# Altium footprint library ICs.PcbLib: 21 footprints (part 2 of 2)
Each footprint in its own frame and in the unit in brackets; x right, y up, seen from the top. Pads: shape width x height; smd on the part's side, far side on the other; paste and mask are expansions set on the pad; w line width, h text height; cw(c..) or ccw(c..) is an arc to the next point about the centre after c.
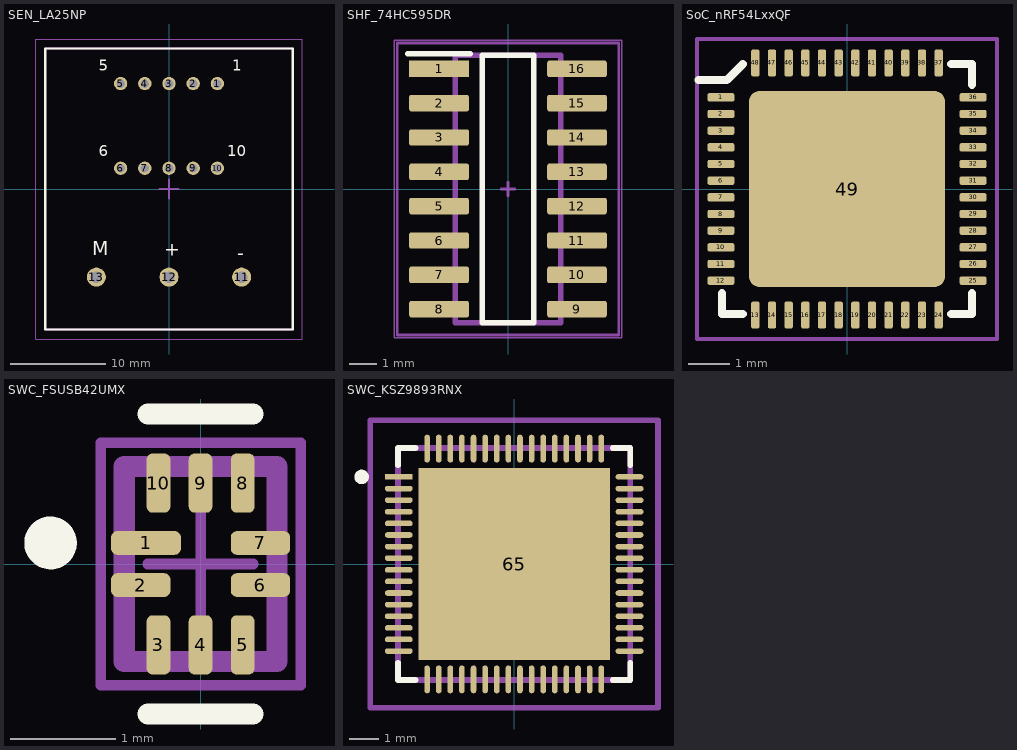
[diagram p1: the footprints below, top view; thin cyan lines are the x and y axes]

## SEN_LA25NP [mm]
pads (13):
  round 1.4 hole 0.9: 1(5.08,11.07) 2(2.54,11.07) 3(0,11.07) 4(-2.54,11.07) 5(-5.08,11.07) 6(-5.08,2.18) 7(-2.54,2.18) 8(0,2.18) 9(2.54,2.18) 10(5.08,2.18)
  round 2 hole 1.2: 11(7.62,-9.25) 12(0,-9.25) 13(-7.62,-9.25)
Top Overlay:
  lines w0.254: -13,-14.75 13,-14.75 13,14.75 -13,14.75 -13,-14.75
  text "1" at 6.621,12 h2
  text "5" at -7.355,12.017 h2
  text "10" at 6.131,3.02 h2
  text "6" at -7.397,3.02 h2
  text "M" at -8.039,-7.5 h2.5
  text "+" at -0.507,-7.556 h2.5
  text "-" at 7.176,-7.954 h2.5
Top Component Center:
  lines w0.2: -1,0 0,0 ; 0,-1 0,0 ; 0,1 0,0 ; 1,0 0,0
Top Designator:
  text ".Designator" at -7.618,-0.508 h1.52
Top 3D Body:
  lines w0.2: -13,-14.75 13,-14.75 13,14.75 -13,14.75 -13,-14.75
Top Courtyard:
  lines w0.1: -14,-15.75 14,-15.75 14,15.75 -14,15.75 -14,-15.75
3D body "LA25-NP.stp": height 16.47, standoff -3.33, extent -13,-14.6 13,14.6

## SHF_74HC595DR [mm]
pads (16):
  rect 2.204x0.608 smd paste+0 mask+0.102: 1(-2.55,4.446)
  rrect25% 2.204x0.608 smd paste+0 mask+0.102: 2(-2.55,3.176) 3(-2.55,1.906) 4(-2.55,0.636) 5(-2.55,-0.634) 6(-2.55,-1.904) 7(-2.55,-3.174) 8(-2.55,-4.444) 9(2.551,-4.444) 10(2.551,-3.174) 11(2.551,-1.904) 12(2.551,-0.634) 13(2.551,0.636) 14(2.551,1.906) 15(2.551,3.176) 16(2.551,4.446)
Top Overlay:
  lines w0.2: -3.7,5 -1.4,5 ; -0.948,-4.949 -0.948,4.951 0.949,4.951 0.949,-4.949 -0.948,-4.949
Top Component Center:
  lines w0.1: -0.25,0.001 0.25,0.001 ; 0.001,-0.25 0.001,0.25
Top Assembly:
  lines w0.1: -4.1,-5.4 -4.1,5.4 4.1,5.4 4.1,-5.4 -4.1,-5.4
Top Designator:
  text ".Designator" at -7.618,-0.508 h1.52
Top 3D Body:
  lines w0.2: -1.949,-4.949 -1.949,4.951 1.951,4.951 1.951,-4.949 -1.949,-4.949
Top Courtyard:
  lines w0.05: -4.2,-5.5 -4.2,5.5 4.2,5.5 4.2,-5.5 -4.2,-5.5
3D body "IC_Nexperia_74HCT138D_653_eec.STEP": height 0.25, standoff 0, extent -4.153,-5.449 4.154,5.451

## SoC_nRF54LxxQF [mm]
pads (49):
  rrect50% 0.65x0.2 smd: 1(-3.025,2.2) 2(-3.025,1.8) 3(-3.025,1.4) 4(-3.025,1) 5(-3.025,0.6) 6(-3.025,0.2) 7(-3.025,-0.2) 8(-3.025,-0.6) 9(-3.025,-1) 10(-3.025,-1.4) 11(-3.025,-1.8) 12(-3.025,-2.2) 25(3.025,-2.2) 26(3.025,-1.8) 27(3.025,-1.4) 28(3.025,-1) 29(3.025,-0.6) 30(3.025,-0.2) 31(3.025,0.2) 32(3.025,0.6) 33(3.025,1) 34(3.025,1.4) 35(3.025,1.8) 36(3.025,2.2)
  rrect50% 0.2x0.65 smd: 13(-2.2,-3.025) 14(-1.8,-3.025) 15(-1.4,-3.025) 16(-1,-3.025) 17(-0.6,-3.025) 18(-0.2,-3.025) 19(0.2,-3.025) 20(0.6,-3.025) 21(1,-3.025) 22(1.4,-3.025) 23(1.8,-3.025) 24(2.2,-3.025) 37(2.2,3.025) 38(1.8,3.025) 39(1.4,3.025) 40(1,3.025) 41(0.6,3.025) 42(0.2,3.025) 43(-0.2,3.025) 44(-0.6,3.025) 45(-1,3.025) 46(-1.4,3.025) 47(-1.8,3.025) 48(-2.2,3.025)
  rrect10% 4.7x4.7 smd: 49(0,0)
Top Overlay:
  lines w0.2: -3.564,2.617 -2.883,2.617 -2.5,3 ; -3,-2.5 -3,-3 -2.5,-3 ; 2.5,-3 3,-3 3,-2.5 ; 2.5,3 3,3 3,2.5
Top Component Center:
  lines w0.1: -0.4,0 0,0 ; 0,-0.4 0,0 ; 0,0.4 0,0 ; 0.4,0 0,0
Top Designator:
  text ".Designator" at -7.618,-0.558 h1.52
Top Courtyard:
  lines w0.1: -3.6,-3.6 -3.6,3.6 3.6,3.6 3.6,-3.6 -3.6,-3.6
3D body "User Library-QFN48.step": height 0.86, standoff -0.01, extent -3.02,-3.02 3.02,3.02

## SWC_FSUSB42UMX [mm]
pads (10):
  rrect50% 0.663x0.225 smd paste+0 mask+0: 1(-0.519,0.2)
  rrect50% 0.563x0.225 smd paste+0 mask+0: 2(-0.569,-0.2) 6(0.569,-0.2) 7(0.569,0.2)
  rrect50% 0.225x0.563 smd paste+0 mask+0: 3(-0.4,-0.768) 4(0,-0.768) 5(0.4,-0.768) 8(0.4,0.768) 9(0,0.768) 10(-0.4,0.768)
Top Overlay:
  circle w0.25: c-1.425,0.2 r0.125
  lines w0.2: -0.5,-1.425 0.5,-1.425 ; -0.5,1.425 0.5,1.425
Top Component Center:
  lines w0.1: -0.5,0 0.5,0 ; 0,-0.5 0,0.5
Top Assembly:
  lines w0.1: -0.95,-1.15 -0.95,1.15 0.95,1.15 0.95,-1.15 -0.95,-1.15
Top Designator:
  text ".Designator" at -7.955,-0.508 h1.52
Top 3D Body:
  lines w0.2: -0.725,-0.925 -0.725,0.925 0.725,0.925 0.725,-0.925 -0.725,-0.925
Top Courtyard:
  lines w0.05: -0.95,-1.15 -0.95,1.15 0.95,1.15 0.95,-1.15 -0.95,-1.15
3D body "IC_ON_Semiconductor_FSUSB42UMX_eec.STEP": height 0.25, standoff 0, extent -0.95,-1.15 0.95,1.15

## SWC_KSZ9893RNX [mm]
pads (65):
  rect 0.961x0.192 smd paste+0 mask+0: 1(-3.976,3)
  rrect100% 0.961x0.192 smd paste+0 mask+0: 2(-3.976,2.6) 3(-3.976,2.2) 4(-3.976,1.8) 5(-3.976,1.4) 6(-3.976,1) 7(-3.976,0.6) 8(-3.976,0.2) 9(-3.976,-0.2) 10(-3.976,-0.6) 11(-3.976,-1) 12(-3.976,-1.4) 13(-3.976,-1.8) 14(-3.976,-2.2) 15(-3.976,-2.6) 16(-3.976,-3) 33(3.976,-3) 34(3.976,-2.6) 35(3.976,-2.2) 36(3.976,-1.8) 37(3.976,-1.4) 38(3.976,-1) 39(3.976,-0.6) 40(3.976,-0.2) 41(3.976,0.2) 42(3.976,0.6) 43(3.976,1) 44(3.976,1.4) 45(3.976,1.8) 46(3.976,2.2) 47(3.976,2.6) 48(3.976,3)
  rrect100% 0.192x0.961 smd paste+0 mask+0: 17(-3,-3.976) 18(-2.6,-3.976) 19(-2.2,-3.976) 20(-1.8,-3.976) 21(-1.4,-3.976) 22(-1,-3.976) 23(-0.6,-3.976) 24(-0.2,-3.976) 25(0.2,-3.976) 26(0.6,-3.976) 27(1,-3.976) 28(1.4,-3.976) 29(1.8,-3.976) 30(2.2,-3.976) 31(2.6,-3.976) 32(3,-3.976) 49(3,3.976) 50(2.6,3.976) 51(2.2,3.976) 52(1.8,3.976) 53(1.4,3.976) 54(1,3.976) 55(0.6,3.976) 56(0.2,3.976) 57(-0.2,3.976) 58(-0.6,3.976) 59(-1,3.976) 60(-1.4,3.976) 61(-1.8,3.976) 62(-2.2,3.976) 63(-2.6,3.976) 64(-3,3.976)
  rect 6.6x6.6 smd paste-1000 mask+0: 65(0,0)
Top Overlay:
  circle w0.25: c-5.256,3 r0.125
  lines w0.2: -4,-3.4 -4,-4 -3.4,-4 ; -4,3.4 -4,4 -3.4,4 ; 3.4,-4 4,-4 4,-3.4 ; 3.4,4 4,4 4,3.4
Top Paste:
  rectangle: 0.404,-2.491 2.491,-0.404
  rectangle: -2.491,-2.491 -0.404,-0.404
  rectangle: 0.404,0.404 2.491,2.491
  rectangle: -2.491,0.404 -0.404,2.491
Top Component Center:
  lines w0.1: -0.5,0 0.5,0 ; 0,-0.5 0,0.5
Top Assembly:
  lines w0.2: -4.956,-4.956 -4.956,4.956 4.956,4.956 4.956,-4.956 -4.956,-4.956
  text ".Designator" at 0,-0.001 h1
Top Designator:
  text ".Designator" at -7.843,-0.508 h1.52
Top 3D Body:
  lines w0.2: -4,-4 -4,4 4,4 4,-4 -4,-4
Top Courtyard:
  lines w0.2: -4.956,-4.956 -4.956,4.956 4.956,4.956 4.956,-4.956 -4.956,-4.956
3D body "IC_Microchip_KSZ9893RNXC_eec.STEP": height 0.25, standoff 0, extent -4.956,-4.956 4.956,4.956